# Altium schematic symbol library SWITCH.SchLib: 1 symbol
Pins are listed as number, name and electrical type; pins without a type are passive.

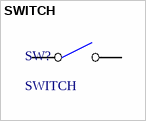
[diagram p0: symbol SWITCH]

## SWITCH
designator SW?
pins: 1 C2, 2 NA2